# Altium footprint library Linear.PcbLib: 1 footprints
Each footprint in its own frame and in the unit in brackets; x right, y up, seen from the top. Pads: shape width x height; smd on the part's side, far side on the other; paste and mask are expansions set on the pad; w line width, h text height; cw(c..) or ccw(c..) is an arc to the next point about the centre after c.
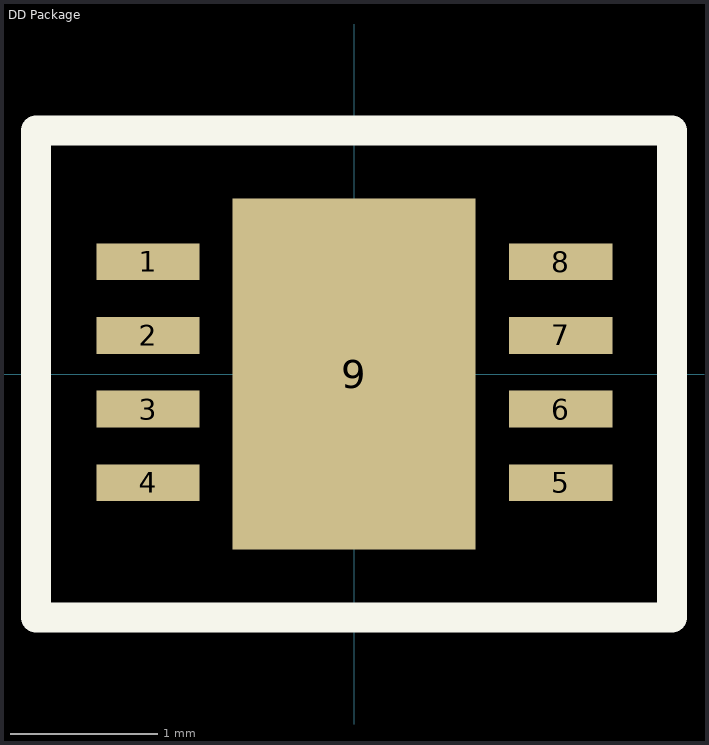
[diagram p0: the footprint, top view; thin cyan lines are the x and y axes]

## DD Package [mm] "8- Lead Plastic DFN  (3mmx3mm)"
pads (9):
  rect 0.7x0.25 smd: 1(-1.397,0.762) 2(-1.397,0.262) 3(-1.397,-0.238) 4(-1.397,-0.738) 5(1.403,-0.738) 6(1.403,-0.238) 7(1.403,0.262) 8(1.403,0.762)
  rect 1.65x2.38 smd: 9(0,0)
Top Overlay:
  lines w0.203: -2.159,-1.651 -2.159,1.651 2.159,1.651 2.159,-1.651 -2.159,-1.651
3D body: height 0.8, standoff 0, extent -1.51,-1.5 1.51,1.5